# Altium schematic symbol library 2803.SchLib: 1 symbol
Pins are listed as number, name and electrical type; pins without a type are passive.

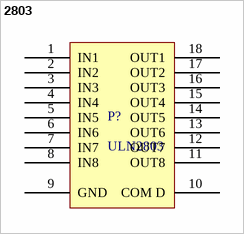
[diagram p0: symbol 2803]

## 2803
designator P?, comment ULN2803
非门
footprint 2803 (非门)
pins: 1 IN1, 2 IN2, 3 IN3, 4 IN4, 5 IN5, 6 IN6, 7 IN7, 8 IN8, 9 GND, 10 COM D, 11 OUT8, 12 OUT7, 13 OUT6, 14 OUT5, 15 OUT4, 16 OUT3, 17 OUT2, 18 OUT1